# Altium footprint library dsub_pcb.PcbLib: 25 footprints (part 1 of 2)
Each footprint in its own frame and in the unit in brackets; x right, y up, seen from the top. Pads: shape width x height; smd on the part's side, far side on the other; paste and mask are expansions set on the pad; w line width, h text height; cw(c..) or ccw(c..) is an arc to the next point about the centre after c.
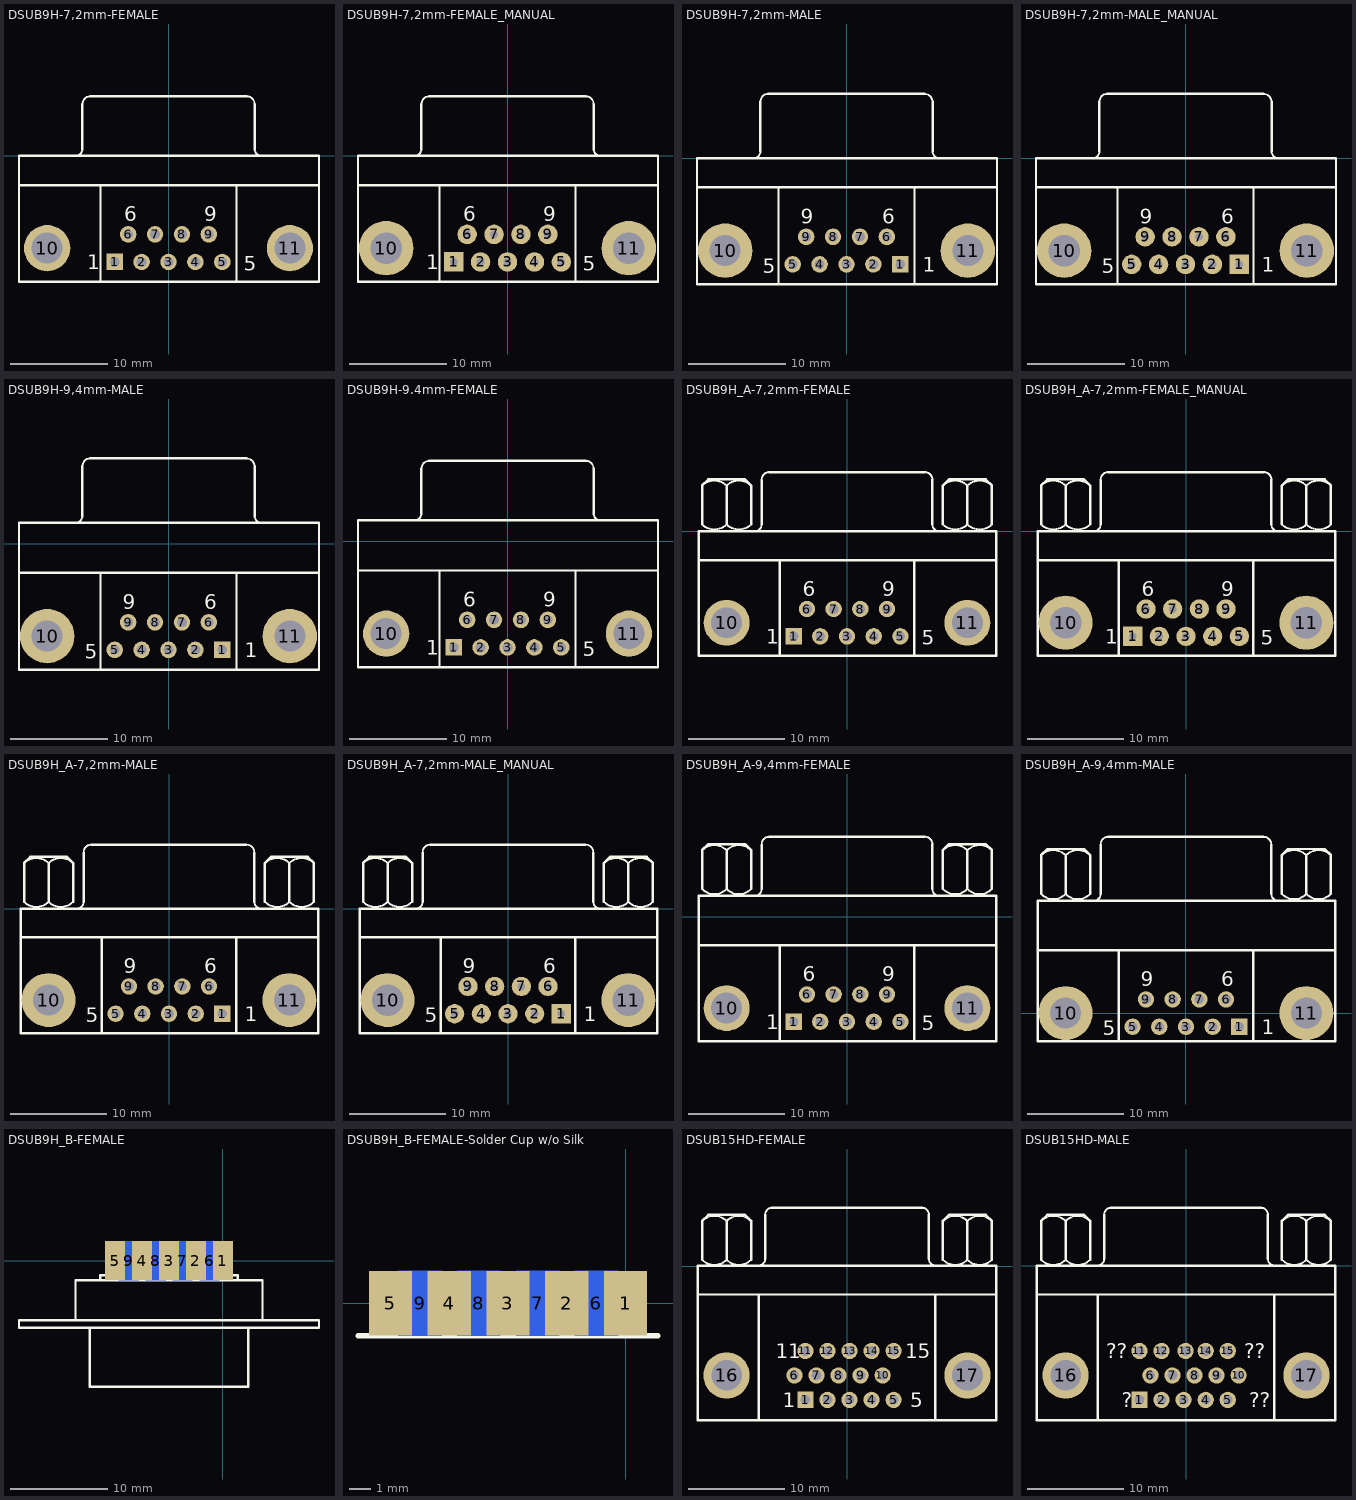
[diagram p0: the footprints below, top view; thin cyan lines are the x and y axes]

## DSUB9H-7,2mm-FEMALE [mm]
height 12.55
pads (11):
  rect 1.7x1.7 hole 1: 1(-5.54,-10.92)
  round 1.7 hole 1: 2(-2.77,-10.92) 3(0,-10.92) 4(2.77,-10.92) 5(5.54,-10.92) 6(-4.155,-8.08) 7(-1.385,-8.08) 8(1.385,-8.08) 9(4.155,-8.08)
  round 4.76 hole 3.2: 10(-12.495,-9.5) 11(12.495,-9.5)
Top Overlay:
  lines w0.2: -9.56,0.005 ccw(c-9.56,0.7) -8.865,0.7 ; -8.86,5.334 cw(c-8.067,5.334) -8.067,6.127 ; 8.064,6.135 cw(c8.064,5.334) 8.865,5.334 ; 8.865,0.7 ccw(c9.56,0.7) 9.56,0.005
  lines w0.254: -15.392,-3 15.4,-3 ; -15.392,-0.008 -15.392,-12.954 15.494,-12.954 15.494,0 -15.392,0 ; -8.865,0.7 -8.865,5.3 ; -8.067,6.127 8.064,6.127 ; -7,-12.954 -7,-3 ; 7,-12.954 7,-3 ; 8.865,0.7 8.865,5.334
  text "6" at -4.572,-6.731 h1.5
  text "9" at 3.683,-6.731 h1.5
  text "5" at 7.747,-11.811 h1.5
  text "1" at -8.382,-11.684 h1.5
3D body "SW3dPS-9-PIN_DSUB_FEMALE_SHORT.STEP": height 12.61, standoff -3.11, extent -15.38,-12.979 15.43,6.096

## DSUB9H-7,2mm-FEMALE_MANUAL [mm]
height 12.55
pads (11):
  rect 2x2 hole 0.8: 1(-5.54,-10.92)
  round 2 hole 0.8: 2(-2.77,-10.92) 3(0,-10.92) 4(2.77,-10.92) 5(5.54,-10.92) 6(-4.155,-8.08) 7(-1.385,-8.08) 8(1.385,-8.08) 9(4.155,-8.08)
  round 5.6 hole 3.26: 10(-12.495,-9.5) 11(12.495,-9.5)
Top Overlay:
  lines w0.2: -9.56,0.005 ccw(c-9.56,0.7) -8.865,0.7 ; -8.86,5.334 cw(c-8.067,5.334) -8.067,6.127 ; 8.064,6.135 cw(c8.064,5.334) 8.865,5.334 ; 8.865,0.7 ccw(c9.56,0.7) 9.56,0.005
  lines w0.254: -15.392,-3 15.4,-3 ; -15.392,-0.008 -15.392,-12.954 15.494,-12.954 15.494,0 -15.392,0 ; -8.865,0.7 -8.865,5.3 ; -8.067,6.127 8.064,6.127 ; -7,-12.954 -7,-3 ; 7,-12.954 7,-3 ; 8.865,0.7 8.865,5.334
  text "1" at -8.382,-11.684 h1.5
  text "5" at 7.747,-11.811 h1.5
  text "9" at 3.683,-6.731 h1.5
  text "6" at -4.572,-6.731 h1.5
3D body "SW3dPS-9-PIN_DSUB_FEMALE_SHORT.STEP": height 12.61, standoff -3.11, extent -15.38,-12.979 15.43,6.096

## DSUB9H-7,2mm-MALE [mm]
height 12.55
pads (11):
  rect 1.7x1.7 hole 1: 1(5.54,-10.92)
  round 1.7 hole 1: 2(2.77,-10.92) 3(0,-10.92) 4(-2.77,-10.92) 5(-5.54,-10.92) 6(4.155,-8.08) 7(1.385,-8.08) 8(-1.385,-8.08) 9(-4.155,-8.08)
  round 5.6 hole 3.2: 10(-12.495,-9.5) 11(12.495,-9.5)
Top Overlay:
  lines w0.2: -9.56,0.005 ccw(c-9.56,0.7) -8.865,0.7 ; -8.86,5.842 cw(c-8.067,5.842) -8.067,6.635 ; 8.031,6.635 cw(c8.031,5.809) 8.857,5.809 ; 8.865,0.7 ccw(c9.56,0.7) 9.56,0.005
  lines w0.254: -15.392,-3 15.4,-3 ; -15.392,-0.008 -15.392,-12.954 15.494,-12.954 15.494,0 -15.392,0 ; -8.865,0.7 -8.865,5.817 ; -8.067,6.635 8.031,6.635 ; -7,-12.954 -7,-3 ; 7,-12.954 7,-3 ; 8.865,0.7 8.865,5.817
  text "1" at 7.874,-11.684 h1.5
  text "5" at -8.636,-11.811 h1.5
  text "9" at -4.699,-6.731 h1.5
  text "6" at 3.683,-6.731 h1.5
3D body "SW3dPS-9-PIN_DSUB.STEP": height 12.57, standoff -3.15, extent -15.367,-12.954 15.519,6.731

## DSUB9H-7,2mm-MALE_MANUAL [mm]
height 12.55
pads (11):
  rect 2x2 hole 0.8: 1(5.54,-10.92)
  round 2 hole 0.8: 2(2.77,-10.92) 3(0,-10.92) 4(-2.77,-10.92) 5(-5.54,-10.92) 6(4.155,-8.08) 7(1.385,-8.08) 8(-1.385,-8.08) 9(-4.155,-8.08)
  round 5.6 hole 3.26: 10(-12.495,-9.5) 11(12.495,-9.5)
Top Overlay:
  lines w0.2: -9.56,0.005 ccw(c-9.56,0.7) -8.865,0.7 ; -8.86,5.842 cw(c-8.067,5.842) -8.067,6.635 ; 8.031,6.635 cw(c8.031,5.809) 8.857,5.809 ; 8.865,0.7 ccw(c9.56,0.7) 9.56,0.005
  lines w0.254: -15.392,-3 15.4,-3 ; -15.392,-0.008 -15.392,-12.954 15.494,-12.954 15.494,0 -15.392,0 ; -8.865,0.7 -8.865,5.817 ; -8.067,6.635 8.031,6.635 ; -7,-12.954 -7,-3 ; 7,-12.954 7,-3 ; 8.865,0.7 8.865,5.817
  text "1" at 7.874,-11.684 h1.5
  text "5" at -8.636,-11.811 h1.5
  text "9" at -4.699,-6.731 h1.5
  text "6" at 3.683,-6.731 h1.5
3D body "SW3dPS-9-PIN_DSUB.STEP": height 12.57, standoff -3.15, extent -15.367,-12.954 15.519,6.731

## DSUB9H-9,4mm-MALE [mm]
height 12.55
pads (11):
  rect 1.7x1.7 hole 1: 1(5.54,-10.92)
  round 1.7 hole 1: 2(2.77,-10.92) 3(0,-10.92) 4(-2.77,-10.92) 5(-5.54,-10.92) 6(4.155,-8.08) 7(1.385,-8.08) 8(-1.385,-8.08) 9(-4.155,-8.08)
  round 5.6 hole 3.2: 10(-12.495,-9.5) 11(12.495,-9.5)
Top Overlay:
  lines w0.2: -9.56,2.164 ccw(c-9.56,2.859) -8.865,2.859 ; -8.86,8.001 cw(c-8.067,8.001) -8.067,8.794 ; 8.031,8.794 cw(c8.031,7.968) 8.857,7.968 ; 8.865,2.859 ccw(c9.56,2.859) 9.56,2.164
  lines w0.254: -15.392,-3 15.4,-3 ; -8.865,2.859 -8.865,7.976 ; -8.067,8.794 8.031,8.794 ; -7,-12.954 -7,-3 ; 7,-12.954 7,-3 ; 8.865,2.859 8.865,7.976 ; -15.392,-12.954 15.494,-12.954 15.494,2.159 -15.392,2.159 -15.392,-12.954
  text "6" at 3.683,-6.731 h1.5
  text "9" at -4.699,-6.731 h1.5
  text "5" at -8.636,-11.811 h1.5
  text "1" at 7.874,-11.684 h1.5

## DSUB9H-9.4mm-FEMALE [mm]
height 12.55
pads (11):
  rect 1.7x1.7 hole 1: 1(-5.54,-10.92)
  round 1.7 hole 1: 2(-2.77,-10.92) 3(0,-10.92) 4(2.77,-10.92) 5(5.54,-10.92) 6(-4.155,-8.08) 7(-1.385,-8.08) 8(1.385,-8.08) 9(4.155,-8.08)
  round 4.76 hole 3.2: 10(-12.495,-9.5) 11(12.495,-9.5)
Top Overlay:
  lines w0.2: -9.56,2.164 ccw(c-9.56,2.859) -8.865,2.859 ; -8.86,7.493 cw(c-8.067,7.493) -8.067,8.286 ; 8.064,8.294 cw(c8.064,7.493) 8.865,7.493 ; 8.865,2.859 ccw(c9.56,2.859) 9.56,2.164
  lines w0.254: -15.392,-3 15.4,-3 ; -8.865,2.859 -8.865,7.459 ; -8.067,8.286 8.064,8.286 ; -7,-12.954 -7,-3 ; 7,-12.954 7,-3 ; 8.865,2.859 8.865,7.493 ; -15.392,-12.954 15.494,-12.954 15.494,2.159 -15.392,2.159 -15.392,-12.954
  text "6" at -4.572,-6.731 h1.5
  text "9" at 3.683,-6.731 h1.5
  text "5" at 7.747,-11.811 h1.5
  text "1" at -8.382,-11.684 h1.5
3D body "SW3dPS-dsub9.STEP": height 12.6, standoff -4, extent -15.643,-12.751 15.592,7.849

## DSUB9H_A-7,2mm-FEMALE [mm]
height 12.55
pads (11):
  rect 1.7x1.7 hole 1: 1(-5.54,-10.92)
  round 1.7 hole 1: 2(-2.77,-10.92) 3(0,-10.92) 4(2.77,-10.92) 5(5.54,-10.92) 6(-4.155,-8.08) 7(-1.385,-8.08) 8(1.385,-8.08) 9(4.155,-8.08)
  round 4.76 hole 3.2: 10(-12.495,-9.5) 11(12.495,-9.5)
Top Overlay:
  lines w0.2: -9.56,0.005 ccw(c-9.56,0.7) -8.865,0.7 ; -8.86,5.334 cw(c-8.067,5.334) -8.067,6.127 ; 8.064,6.135 cw(c8.064,5.334) 8.865,5.334 ; 8.865,0.7 ccw(c9.56,0.7) 9.56,0.005
  lines w0.203: -15.04,0.697 ccw(c-13.768,1.969) -12.496,0.697 ; -15.038,4.715 cw(c-13.766,3.443) -12.493,4.715 ; -12.502,4.715 cw(c-11.23,3.443) -9.958,4.715 ; -12.5,0.697 ccw(c-11.228,1.969) -9.956,0.697 ; 9.956,0.697 ccw(c11.228,1.969) 12.5,0.697 ; 9.958,4.715 cw(c11.23,3.443) 12.502,4.715 ; 12.493,4.715 cw(c13.766,3.443) 15.038,4.715 ; 12.496,0.697 ccw(c13.768,1.969) 15.04,0.697
  lines w0.254: -15.392,-3 15.4,-3 ; -15.392,-0.008 -15.392,-12.954 15.494,-12.954 15.494,0 -15.392,0 ; -15.038,0.699 -15.038,4.724 ; -15.038,4.73 -14.403,5.365 -10.593,5.365 -9.958,4.73 ; -12.498,0.699 -12.498,4.724 ; -9.958,0.699 -9.958,4.699 ; -8.865,0.7 -8.865,5.3 ; -8.067,6.127 8.064,6.127 ; -7,-12.954 -7,-3 ; 7,-12.954 7,-3 ; 8.865,0.7 8.865,5.334 ; 9.958,0.699 9.958,4.699 ; 9.958,4.73 10.593,5.365 14.403,5.365 15.038,4.73 ; 12.498,0.699 12.498,4.724 ; 15.038,0.699 15.038,4.724
  text "6" at -4.572,-6.731 h1.5
  text "9" at 3.683,-6.731 h1.5
  text "5" at 7.747,-11.811 h1.5
  text "1" at -8.382,-11.684 h1.5
3D body "SW3dPS-9-PIN_DSUB_FEMALE_SHORT.STEP": height 12.61, standoff -3.11, extent -15.38,-12.979 15.43,6.096

## DSUB9H_A-7,2mm-FEMALE_MANUAL [mm]
height 12.55
pads (11):
  rect 2x2 hole 0.8: 1(-5.54,-10.92)
  round 2 hole 0.8: 2(-2.77,-10.92) 3(0,-10.92) 4(2.77,-10.92) 5(5.54,-10.92) 6(-4.155,-8.08) 7(-1.385,-8.08) 8(1.385,-8.08) 9(4.155,-8.08)
  round 5.6 hole 3.26: 10(-12.495,-9.5) 11(12.495,-9.5)
Top Overlay:
  lines w0.2: -9.56,0.005 ccw(c-9.56,0.7) -8.865,0.7 ; -8.86,5.334 cw(c-8.067,5.334) -8.067,6.127 ; 8.064,6.135 cw(c8.064,5.334) 8.865,5.334 ; 8.865,0.7 ccw(c9.56,0.7) 9.56,0.005
  lines w0.203: -15.04,0.697 ccw(c-13.768,1.969) -12.496,0.697 ; -15.038,4.715 cw(c-13.766,3.443) -12.493,4.715 ; -12.502,4.715 cw(c-11.23,3.443) -9.958,4.715 ; -12.5,0.697 ccw(c-11.228,1.969) -9.956,0.697 ; 9.956,0.697 ccw(c11.228,1.969) 12.5,0.697 ; 9.958,4.715 cw(c11.23,3.443) 12.502,4.715 ; 12.493,4.715 cw(c13.766,3.443) 15.038,4.715 ; 12.496,0.697 ccw(c13.768,1.969) 15.04,0.697
  lines w0.254: -15.392,-3 15.4,-3 ; -15.392,-0.008 -15.392,-12.954 15.494,-12.954 15.494,0 -15.392,0 ; -15.038,0.699 -15.038,4.724 ; -15.038,4.73 -14.403,5.365 -10.593,5.365 -9.958,4.73 ; -12.498,0.699 -12.498,4.724 ; -9.958,0.699 -9.958,4.699 ; -8.865,0.7 -8.865,5.3 ; -8.067,6.127 8.064,6.127 ; -7,-12.954 -7,-3 ; 7,-12.954 7,-3 ; 8.865,0.7 8.865,5.334 ; 9.958,0.699 9.958,4.699 ; 9.958,4.73 10.593,5.365 14.403,5.365 15.038,4.73 ; 12.498,0.699 12.498,4.724 ; 15.038,0.699 15.038,4.724
  text "1" at -8.382,-11.684 h1.5
  text "5" at 7.747,-11.811 h1.5
  text "9" at 3.683,-6.731 h1.5
  text "6" at -4.572,-6.731 h1.5
3D body "SW3dPS-9-PIN_DSUB_FEMALE_SHORT.STEP": height 12.61, standoff -3.11, extent -15.38,-12.979 15.43,6.096

## DSUB9H_A-7,2mm-MALE [mm]
height 12.55
pads (11):
  rect 1.7x1.7 hole 1: 1(5.54,-10.92)
  round 1.7 hole 1: 2(2.77,-10.92) 3(0,-10.92) 4(-2.77,-10.92) 5(-5.54,-10.92) 6(4.155,-8.08) 7(1.385,-8.08) 8(-1.385,-8.08) 9(-4.155,-8.08)
  round 5.6 hole 3.2: 10(-12.495,-9.5) 11(12.495,-9.5)
Top Overlay:
  lines w0.2: -9.56,0.005 ccw(c-9.56,0.7) -8.865,0.7 ; -8.86,5.842 cw(c-8.067,5.842) -8.067,6.635 ; 8.031,6.635 cw(c8.031,5.809) 8.857,5.809 ; 8.865,0.7 ccw(c9.56,0.7) 9.56,0.005
  lines w0.203: -15.04,0.697 ccw(c-13.768,1.969) -12.496,0.697 ; -15.038,4.715 cw(c-13.766,3.443) -12.493,4.715 ; -12.502,4.715 cw(c-11.23,3.443) -9.958,4.715 ; -12.5,0.697 ccw(c-11.228,1.969) -9.956,0.697 ; 9.956,0.697 ccw(c11.228,1.969) 12.5,0.697 ; 9.958,4.715 cw(c11.23,3.443) 12.502,4.715 ; 12.493,4.715 cw(c13.766,3.443) 15.038,4.715 ; 12.496,0.697 ccw(c13.768,1.969) 15.04,0.697
  lines w0.254: -15.392,-3 15.4,-3 ; -15.392,-0.008 -15.392,-12.954 15.494,-12.954 15.494,0 -15.392,0 ; -15.038,0.699 -15.038,4.724 ; -15.038,4.73 -14.403,5.365 -10.593,5.365 -9.958,4.73 ; -12.498,0.699 -12.498,4.724 ; -9.958,0.699 -9.958,4.699 ; -8.865,0.7 -8.865,5.817 ; -8.067,6.635 8.031,6.635 ; -7,-12.954 -7,-3 ; 7,-12.954 7,-3 ; 8.865,0.7 8.865,5.817 ; 9.958,0.699 9.958,4.699 ; 9.958,4.73 10.593,5.365 14.403,5.365 15.038,4.73 ; 12.498,0.699 12.498,4.724 ; 15.038,0.699 15.038,4.724
  text "6" at 3.683,-6.731 h1.5
  text "9" at -4.699,-6.731 h1.5
  text "5" at -8.636,-11.811 h1.5
  text "1" at 7.874,-11.684 h1.5
3D body "SW3dPS-9-PIN_DSUB.STEP": height 12.57, standoff -3.15, extent -15.367,-12.954 15.519,6.731

## DSUB9H_A-7,2mm-MALE_MANUAL [mm]
height 12.55
pads (11):
  rect 2x2 hole 0.8: 1(5.54,-10.92)
  round 2 hole 0.8: 2(2.77,-10.92) 3(0,-10.92) 4(-2.77,-10.92) 5(-5.54,-10.92) 6(4.155,-8.08) 7(1.385,-8.08) 8(-1.385,-8.08) 9(-4.155,-8.08)
  round 5.6 hole 3.26: 10(-12.495,-9.5) 11(12.495,-9.5)
Top Overlay:
  lines w0.2: -9.56,0.005 ccw(c-9.56,0.7) -8.865,0.7 ; -8.86,5.842 cw(c-8.067,5.842) -8.067,6.635 ; 8.031,6.635 cw(c8.031,5.809) 8.857,5.809 ; 8.865,0.7 ccw(c9.56,0.7) 9.56,0.005
  lines w0.203: -15.04,0.697 ccw(c-13.768,1.969) -12.496,0.697 ; -15.038,4.715 cw(c-13.766,3.443) -12.493,4.715 ; -12.502,4.715 cw(c-11.23,3.443) -9.958,4.715 ; -12.5,0.697 ccw(c-11.228,1.969) -9.956,0.697 ; 9.956,0.697 ccw(c11.228,1.969) 12.5,0.697 ; 9.958,4.715 cw(c11.23,3.443) 12.502,4.715 ; 12.493,4.715 cw(c13.766,3.443) 15.038,4.715 ; 12.496,0.697 ccw(c13.768,1.969) 15.04,0.697
  lines w0.254: -15.392,-3 15.4,-3 ; -15.392,-0.008 -15.392,-12.954 15.494,-12.954 15.494,0 -15.392,0 ; -15.038,0.699 -15.038,4.724 ; -15.038,4.73 -14.403,5.365 -10.593,5.365 -9.958,4.73 ; -12.498,0.699 -12.498,4.724 ; -9.958,0.699 -9.958,4.699 ; -8.865,0.7 -8.865,5.817 ; -8.067,6.635 8.031,6.635 ; -7,-12.954 -7,-3 ; 7,-12.954 7,-3 ; 8.865,0.7 8.865,5.817 ; 9.958,0.699 9.958,4.699 ; 9.958,4.73 10.593,5.365 14.403,5.365 15.038,4.73 ; 12.498,0.699 12.498,4.724 ; 15.038,0.699 15.038,4.724
  text "6" at 3.683,-6.731 h1.5
  text "9" at -4.699,-6.731 h1.5
  text "5" at -8.636,-11.811 h1.5
  text "1" at 7.874,-11.684 h1.5
3D body "SW3dPS-9-PIN_DSUB.STEP": height 12.57, standoff -3.15, extent -15.367,-12.954 15.519,6.731

## DSUB9H_A-9,4mm-FEMALE [mm]
height 12.55
pads (11):
  rect 1.7x1.7 hole 1: 1(-5.54,-10.92)
  round 1.7 hole 1: 2(-2.77,-10.92) 3(0,-10.92) 4(2.77,-10.92) 5(5.54,-10.92) 6(-4.155,-8.08) 7(-1.385,-8.08) 8(1.385,-8.08) 9(4.155,-8.08)
  round 4.76 hole 3.2: 10(-12.495,-9.5) 11(12.495,-9.5)
Top Overlay:
  lines w0.2: -9.56,2.164 ccw(c-9.56,2.859) -8.865,2.859 ; -8.86,7.493 cw(c-8.067,7.493) -8.067,8.286 ; 8.064,8.294 cw(c8.064,7.493) 8.865,7.493 ; 8.865,2.859 ccw(c9.56,2.859) 9.56,2.164
  lines w0.203: -15.04,2.856 ccw(c-13.768,4.128) -12.496,2.856 ; -15.038,6.874 cw(c-13.766,5.602) -12.493,6.874 ; -12.502,6.874 cw(c-11.23,5.602) -9.958,6.874 ; -12.5,2.856 ccw(c-11.228,4.128) -9.956,2.856 ; 9.956,2.856 ccw(c11.228,4.128) 12.5,2.856 ; 9.958,6.874 cw(c11.23,5.602) 12.502,6.874 ; 12.493,6.874 cw(c13.766,5.602) 15.038,6.874 ; 12.496,2.856 ccw(c13.768,4.128) 15.04,2.856
  lines w0.254: -15.392,-3 15.4,-3 ; -15.038,2.858 -15.038,6.883 ; -15.038,6.889 -14.403,7.524 -10.593,7.524 -9.958,6.889 ; -12.498,2.858 -12.498,6.883 ; -9.958,2.858 -9.958,6.858 ; -8.865,2.859 -8.865,7.459 ; -8.067,8.286 8.064,8.286 ; -7,-12.954 -7,-3 ; 7,-12.954 7,-3 ; 8.865,2.859 8.865,7.493 ; 9.958,2.858 9.958,6.858 ; 9.958,6.889 10.593,7.524 14.403,7.524 15.038,6.889 ; 12.498,2.858 12.498,6.883 ; 15.038,2.858 15.038,6.883 ; -15.392,-12.954 15.494,-12.954 15.494,2.159 -15.392,2.159 -15.392,-12.954
  text "6" at -4.572,-6.731 h1.5
  text "9" at 3.683,-6.731 h1.5
  text "5" at 7.747,-11.811 h1.5
  text "1" at -8.382,-11.684 h1.5

## DSUB9H_A-9,4mm-MALE [mm]
height 12.55
pads (11):
  rect 1.7x1.7 hole 1: 1(5.54,-1.42)
  round 1.7 hole 1: 2(2.77,-1.42) 3(0,-1.42) 4(-2.77,-1.42) 5(-5.54,-1.42) 6(4.155,1.42) 7(1.385,1.42) 8(-1.385,1.42) 9(-4.155,1.42)
  round 5.6 hole 3.2: 10(-12.495,0) 11(12.495,0)
Top Overlay:
  lines w0.2: -9.56,11.664 ccw(c-9.56,12.359) -8.865,12.359 ; -8.86,17.501 cw(c-8.067,17.501) -8.067,18.294 ; 8.031,18.294 cw(c8.031,17.468) 8.857,17.468 ; 8.865,12.359 ccw(c9.56,12.359) 9.56,11.664
  lines w0.203: -15.04,12.356 ccw(c-13.768,13.628) -12.496,12.356 ; -15.038,16.374 cw(c-13.766,15.102) -12.493,16.374 ; -12.502,16.374 cw(c-11.23,15.102) -9.958,16.374 ; -12.5,12.356 ccw(c-11.228,13.628) -9.956,12.356 ; 9.956,12.356 ccw(c11.228,13.628) 12.5,12.356 ; 9.958,16.374 cw(c11.23,15.102) 12.502,16.374 ; 12.493,16.374 cw(c13.766,15.102) 15.038,16.374 ; 12.496,12.356 ccw(c13.768,13.628) 15.04,12.356
  lines w0.254: -15.392,6.5 15.4,6.5 ; -15.038,12.358 -15.038,16.383 ; -15.038,16.389 -14.403,17.024 -10.593,17.024 -9.958,16.389 ; -12.498,12.358 -12.498,16.383 ; -9.958,12.358 -9.958,16.358 ; -8.865,12.359 -8.865,17.476 ; -8.067,18.294 8.031,18.294 ; -7,-2.921 -7,6.5 ; 7,-2.921 7,6.5 ; 8.865,12.359 8.865,17.476 ; 9.958,12.358 9.958,16.358 ; 9.958,16.389 10.593,17.024 14.403,17.024 15.038,16.389 ; 12.498,12.358 12.498,16.383 ; 15.038,12.358 15.038,16.383 ; -15.392,-2.921 -15.392,11.659 15.494,11.659 15.494,-2.921 -15.392,-2.921
  text "1" at 7.874,-2.184 h1.5
  text "5" at -8.636,-2.311 h1.5
  text "9" at -4.699,2.769 h1.5
  text "6" at 3.683,2.769 h1.5
3D body "D-Sub-L120586-Stig-Wahlstrom.STEP": height 12.55, standoff -3.75, extent -15.405,-2.897 15.405,17.803

## DSUB9H_B-FEMALE [mil]
pads (11):
  rect 80x157.48 smd: 1(0,0) 2(-109,0) 3(-218,0) 4(-327,0) 5(-436,0)
  rect 80x157.48 smd far side: 6(-54,0) 7(-163,0) 8(-272,0) 9(-381,0)
  round 0 all layers, no hole: 10(-500,-100) 11(-400,-100)
Top Overlay:
  lines w10: -596,-241 -596,-80 160,-80 160,-241 ; -539,-271 -539,-511 103,-511 103,-271 ; -496,-76 -496,-60 60,-60 60,-80 ; -824.5,-271 -824.5,-241 388.5,-241 388.5,-271 -824.5,-271
3D body "D-Sub-K122434007-Stig-Wahlstrom.STEP": height 246.06, standoff -246.06, extent -821.5,-572.8 391.5,65

## DSUB9H_B-FEMALE-Solder Cup w/o Silk [mil]
pads (11):
  rect 80x120 smd: 1(0,0) 2(-109,0) 3(-218,0) 4(-327,0) 5(-436,0)
  rect 80x120 smd far side: 6(-54,0) 7(-163,0) 8(-272,0) 9(-381,0)
  round 0 all layers, no hole: 10(-300,-100) 11(-200,-100)
Top Overlay:
  lines w10: -496,-60 60,-60
3D body "D-Sub-K122434007-Stig-Wahlstrom.STEP": height 246.06, standoff -246.06, extent -821.5,-557.8 391.5,80

## DSUB15HD-FEMALE [mm]
pads (17):
  rect 1.69x1.69 hole 1: 1(-4.32,-13.89)
  round 1.69 hole 1: 2(-2.03,-13.89) 3(0.26,-13.89) 4(2.55,-13.89) 5(4.84,-13.89) 6(-5.46,-11.35) 7(-3.17,-11.35) 8(-0.88,-11.35) 9(1.41,-11.35) 10(3.7,-11.35) 11(-4.32,-8.81) 12(-2.03,-8.81) 13(0.26,-8.81) 14(2.55,-8.81) 15(4.84,-8.81)
  round 4.8 hole 3.18: 16(-12.5,-11.35) 17(12.5,-11.35)
Top Overlay:
  lines w0.2: -9.195,0.055 ccw(c-9.195,0.75) -8.5,0.75 ; -8.495,5.355 cw(c-7.8,5.355) -7.8,6.05 ; 7.8,6.05 cw(c7.8,5.355) 8.495,5.355 ; 8.5,0.75 ccw(c9.195,0.75) 9.195,0.055
  lines w0.203: -15.045,0.656 ccw(c-13.773,1.928) -12.501,0.656 ; -15.043,4.674 cw(c-13.771,3.402) -12.498,4.674 ; -12.507,4.674 cw(c-11.235,3.402) -9.963,4.674 ; -12.505,0.656 ccw(c-11.233,1.928) -9.961,0.656 ; 9.955,0.656 ccw(c11.227,1.928) 12.499,0.656 ; 9.957,4.674 cw(c11.229,3.402) 12.502,4.674 ; 12.493,4.674 cw(c13.765,3.402) 15.037,4.674 ; 12.495,0.656 ccw(c13.767,1.928) 15.039,0.656
  lines w0.254: -15.5,-2.95 15.5,-2.95 ; -15.043,0.658 -15.043,4.683 ; -15.043,4.689 -14.408,5.324 -10.598,5.324 -9.963,4.689 ; -12.503,0.658 -12.503,4.683 ; -9.963,0.658 -9.963,4.658 ; -9.14,-16 -9.14,-2.95 ; -8.5,0.75 -8.5,5.35 ; -7.8,6.05 7.8,6.05 ; 8.5,0.75 8.5,5.35 ; 9.14,-16 9.14,-2.95 ; 9.957,0.658 9.957,4.683 ; 9.957,4.689 10.592,5.324 14.402,5.324 15.037,4.689 ; 12.497,0.658 12.497,4.683 ; 15.037,0.658 15.037,4.658 ; -15.5,-16 -15.5,0.05 15.5,0.05 15.5,-16 -15.5,-16
  text "1" at -6.658,-14.652 h1.5
  text "5" at 6.55,-14.652 h1.5
  text "15" at 6.042,-9.572 h1.5
  text "11" at -7.42,-9.572 h1.5
3D body "70471.stp": height 12.57, standoff -4.6, extent -15.42,-16.05 15.42,5.85

## DSUB15HD-MALE [mm]
pads (17):
  rect 1.69x1.69 hole 1: 1(-4.83,-13.94)
  round 1.69 hole 1: 2(-2.54,-13.94) 3(-0.25,-13.94) 4(2.04,-13.94) 5(4.33,-13.94) 6(-3.7,-11.4) 7(-1.41,-11.4) 8(0.88,-11.4) 9(3.17,-11.4) 10(5.46,-11.4) 11(-4.83,-8.86) 12(-2.54,-8.86) 13(-0.05,-8.86) 14(2.04,-8.86) 15(4.33,-8.86)
  round 4.8 hole 3.18: 16(-12.5,-11.4) 17(12.5,-11.4)
Top Overlay:
  lines w0.2: -9.195,0.005 ccw(c-9.195,0.7) -8.5,0.7 ; -8.495,5.305 cw(c-7.8,5.305) -7.8,6 ; 7.8,6 cw(c7.8,5.305) 8.495,5.305 ; 8.5,0.7 ccw(c9.195,0.7) 9.195,0.005
  lines w0.203: -15.045,0.606 ccw(c-13.773,1.878) -12.501,0.606 ; -15.043,4.624 cw(c-13.771,3.352) -12.498,4.624 ; -12.507,4.624 cw(c-11.235,3.352) -9.963,4.624 ; -12.505,0.606 ccw(c-11.233,1.878) -9.961,0.606 ; 9.955,0.606 ccw(c11.227,1.878) 12.499,0.606 ; 9.957,4.624 cw(c11.229,3.352) 12.502,4.624 ; 12.493,4.624 cw(c13.765,3.352) 15.037,4.624 ; 12.495,0.606 ccw(c13.767,1.878) 15.039,0.606
  lines w0.254: -15.5,-3 15.5,-3 ; -15.043,0.608 -15.043,4.633 ; -15.043,4.639 -14.408,5.274 -10.598,5.274 -9.963,4.639 ; -12.503,0.608 -12.503,4.633 ; -9.963,0.608 -9.963,4.608 ; -9.14,-16.05 -9.14,-3 ; -8.5,0.7 -8.5,5.3 ; -7.8,6 7.8,6 ; 8.5,0.7 8.5,5.3 ; 9.14,-16.05 9.14,-3 ; 9.957,0.608 9.957,4.633 ; 9.957,4.639 10.592,5.274 14.402,5.274 15.037,4.639 ; 12.497,0.608 12.497,4.633 ; 15.037,0.608 15.037,4.608 ; -15.5,-16.05 -15.5,0 15.5,0 15.5,-16.05 -15.5,-16.05
  text "??" at -6.658,-14.702 h1.5
  text "??" at 6.55,-14.702 h1.5
  text "??" at 6.042,-9.622 h1.5
  text "??" at -8.3,-9.6 h1.5
3D body "70478.stp": height 12.57, standoff -4.6, extent -15.42,-16.1 15.42,6.1